# Altium footprint library TO-220-3.PcbLib: 1 footprints
Each footprint in its own frame and in the unit in brackets; x right, y up, seen from the top. Pads: shape width x height; smd on the part's side, far side on the other; paste and mask are expansions set on the pad; w line width, h text height; cw(c..) or ccw(c..) is an arc to the next point about the centre after c.
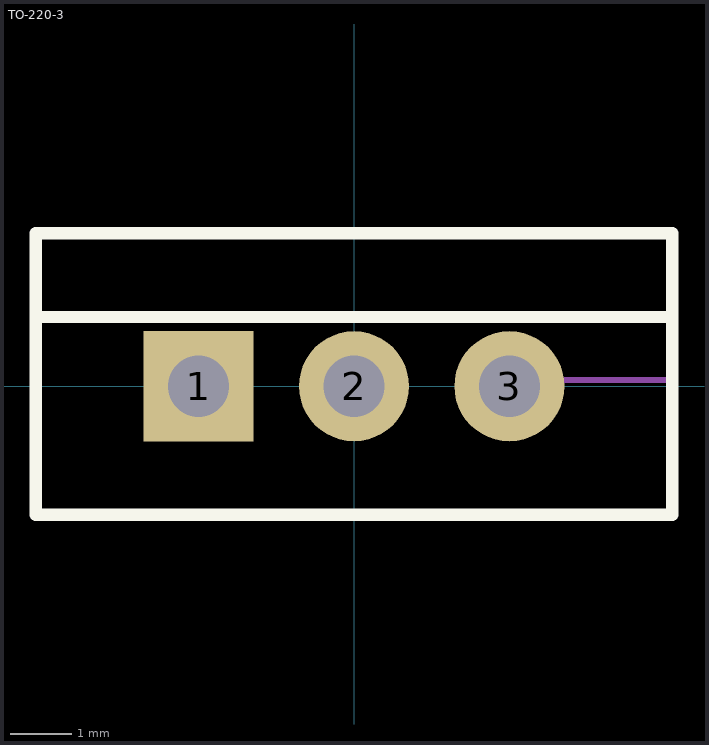
[diagram p0: the footprint, top view; thin cyan lines are the x and y axes]

## TO-220-3 [mm]
height 1.1
pads (3):
  rect 1.8x1.8 hole 1: 1(-2.54,0)
  round 1.8 hole 1: 2(0,0) 3(2.54,0)
Top Overlay:
  lines w0.2: -5.2,1.13 5.2,1.13 ; -5.2,-2.1 5.2,-2.1 5.2,2.5 -5.2,2.5 -5.2,-2.1
Top Assembly:
  lines w0.1: 3.45,0.1 5.2,0.1 ; 3.45,2.5 -5.2,2.5 -5.2,-2.1 5.2,-2.1 5.2,2.5
  text "'.Designator'" at 0,0 h0.7
3D body "ALSRobot-TO-220-3.STEP": height 23.8, standoff -4.98, extent -4.95,-2.1 4.95,2.4